# EAGLE library part ISD51XX (library isd)
VOICE RECORD/PLAYBACK IC 3V, I2C Interface, 1-16 Minutes
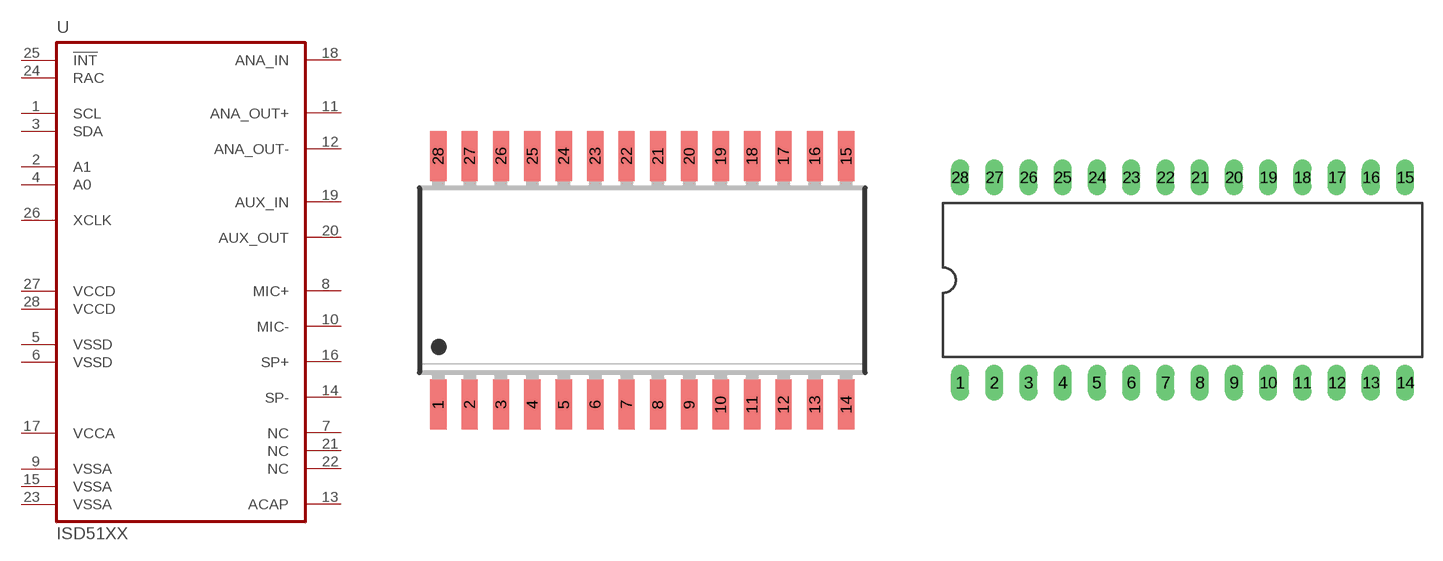
[diagram p2: symbol with the pads of SO28L; footprints SO28L, DIL28-6]

Designator prefix U

## ISD51XXS  [SO28L]
1  SCL
2  A1  in
3  SDA
4  A0  in
5  VSSD  pwr
6  VSSD  pwr
7  NC  nc
8  MIC+  in
9  VSSA  pwr
10  MIC-  in
11  ANA_OUT+  out
12  ANA_OUT-  out
13  ACAP  in
14  SP-  out
15  VSSA  pwr
16  SP+  out
17  VCCA  pwr
18  ANA_IN  in
19  AUX_IN  in
20  AUX_OUT  out
21  NC  nc
22  NC  nc
23  VSSA  pwr
24  RAC  out
25  !INT!  out
26  XCLK  in
27  VCCD  pwr
28  VCCD  pwr

## ISD51XXP  [DIL28-6]
Pads as for SO28L

## ISD51XXE  [TSOP28-1]
1  NC  nc
2  VSSA  pwr
3  RAC  out
4  !INT!  out
5  XCLK  in
6  VCCD  pwr
7  VCCD  pwr
8  SCL
9  A1  in
10  SDA
11  A0  in
12  VSSD  pwr
13  VSSD  pwr
14  NC  nc
15  VSSA  pwr
16  MIC+  in
17  MIC-  in
18  ANA_OUT+  out
19  ANA_OUT-  out
20  ACAP  in
21  SP-  out
22  VSSA  pwr
23  SP+  out
24  VCCA  pwr
25  ANA_IN  in
26  AUX_IN  in
27  AUX_OUT  out
28  NC  nc

## Footprint SO28L (pad centres in mm)
Small Outline Package 28L SOIC (300 MIL BODY) - JEDEC#: MS-013
smd 0.66 x 2.032: 1 -8.255,-5.029; 2 -6.985,-5.029; 3 -5.715,-5.029; 4 -4.445,-5.029; 5 -3.175,-5.029; 6 -1.905,-5.029; 7 -0.635,-5.029; 8 0.635,-5.029; 9 1.905,-5.029; 10 3.175,-5.029; 11 4.445,-5.029; 12 5.715,-5.029; 13 6.985,-5.029; 14 8.255,-5.029; 15 8.255,5.029; 16 6.985,5.029; 17 5.715,5.029; 18 4.445,5.029; 19 3.175,5.029; 20 1.905,5.029; 21 0.635,5.029; 22 -0.635,5.029; 23 -1.905,5.029; 24 -3.175,5.029; 25 -4.445,5.029; 26 -5.715,5.029; 27 -6.985,5.029; 28 -8.255,5.029

## Footprint DIL28-6 (pad centres in mm)
Dual In Line Package 0.6 inch
drill 0.813 long: 1 -16.51,-7.62; 2 -13.97,-7.62; 3 -11.43,-7.62; 4 -8.89,-7.62; 5 -6.35,-7.62; 6 -3.81,-7.62; 7 -1.27,-7.62; 8 1.27,-7.62; 9 3.81,-7.62; 10 6.35,-7.62; 11 8.89,-7.62; 12 11.43,-7.62; 13 13.97,-7.62; 14 16.51,-7.62; 15 16.51,7.62; 16 13.97,7.62; 17 11.43,7.62; 18 8.89,7.62; 19 6.35,7.62; 20 3.81,7.62; 21 1.27,7.62; 22 -1.27,7.62; 23 -3.81,7.62; 24 -6.35,7.62; 25 -8.89,7.62; 26 -11.43,7.62; 27 -13.97,7.62; 28 -16.51,7.62

## Footprint TSOP28-1 (pad centres in mm)
PLASTIC THIN SMALL OUTLINE PACKAGE (TSOP) TYPE 1 body 8 X 13.4mm, pitch 0.55mm
smd 0.28 x 0.9: 1 -3.85,-6.6; 2 -3.3,-6.6; 3 -2.75,-6.6; 4 -2.2,-6.6; 5 -1.65,-6.6; 6 -1.1,-6.6; 7 -0.55,-6.6; 8 0,-6.6; 9 0.55,-6.6; 10 1.1,-6.6; 11 1.65,-6.6; 12 2.2,-6.6; 13 2.75,-6.6; 14 3.3,-6.6; 15 3.3,6.6; 16 2.75,6.6; 17 2.2,6.6; 18 1.65,6.6; 19 1.1,6.6; 20 0.55,6.6; 21 0,6.6; 22 -0.55,6.6; 23 -1.1,6.6; 24 -1.65,6.6; 25 -2.2,6.6; 26 -2.75,6.6; 27 -3.3,6.6; 28 -3.85,6.6